# Altium footprint library ADA4945-1ACPZ.PcbLib: 1 footprints
Each footprint in its own frame and in the unit in brackets; x right, y up, seen from the top. Pads: shape width x height; smd on the part's side, far side on the other; paste and mask are expansions set on the pad; w line width, h text height; cw(c..) or ccw(c..) is an arc to the next point about the centre after c.
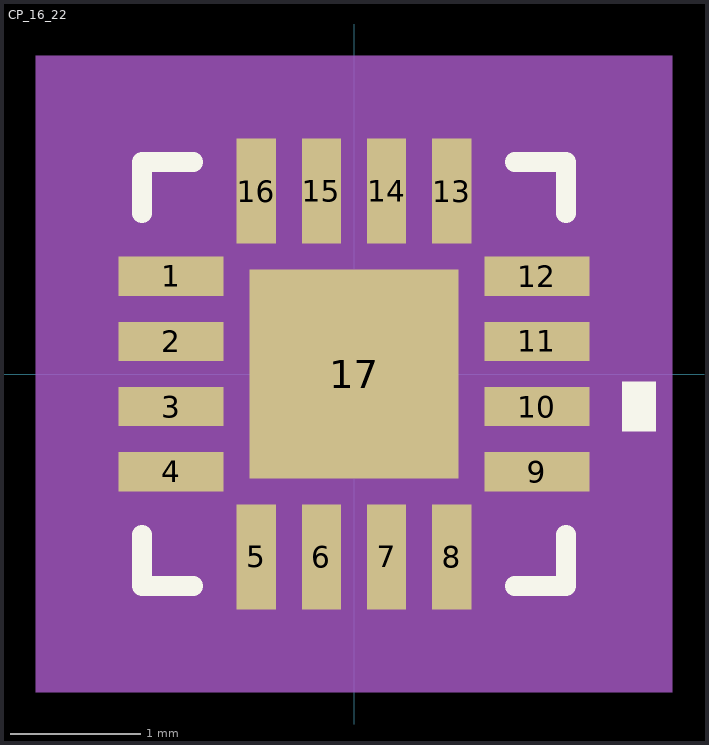
[diagram p0: the footprint, top view; thin cyan lines are the x and y axes]

## CP_16_22 [mm]
pads (17):
  rect 0.805x0.3 smd paste+0 mask+0: 1(-1.402,0.75) 2(-1.402,0.25) 3(-1.402,-0.25) 4(-1.402,-0.75) 9(1.402,-0.75) 10(1.402,-0.25) 11(1.402,0.25) 12(1.402,0.75)
  rect 0.3x0.805 smd paste+0 mask+0: 5(-0.75,-1.402) 6(-0.25,-1.402) 7(0.25,-1.402) 8(0.75,-1.402) 13(0.75,1.402) 14(0.25,1.402) 15(-0.25,1.402) 16(-0.75,1.402)
  rect 1.6x1.6 smd paste-0.787 mask+0: 17(0,0)
Top Overlay:
  region: 2.059,-0.059 2.313,-0.059 2.313,-0.44 2.059,-0.44
  lines w0.152: -1.627,-1.233 -1.627,-1.627 -1.233,-1.627 ; -1.627,1.233 -1.627,1.627 -1.233,1.627 ; 1.233,-1.627 1.627,-1.627 1.627,-1.233 ; 1.233,1.627 1.627,1.627 1.627,1.233
  text "." at -2.921,0.635 h1.27
Top Paste:
  region: 0.8,0.8 -0.8,0.8 -0.8,-0.8 0.8,-0.8
Mechanical 5:
  region: 2.44,-2.44 -2.44,-2.44 -2.44,2.44 2.44,2.44
Mechanical 13:
  lines w0.025: -1.5,0.23 -0.23,1.5 ; -1.5,-1.5 1.5,-1.5 1.5,1.5 -1.5,1.5 -1.5,-1.5 ; -1.5,-0.9 -1.5,-0.6 -1.5,-0.9 ; -1.5,-0.4 -1.5,-0.1 -1.5,-0.4 ; -1.5,0.1 -1.5,0.4 -1.5,0.1 ; -1.5,0.6 -1.5,0.9 -1.5,0.6 ; -0.9,-1.5 -0.6,-1.5 -0.9,-1.5 ; -0.9,1.5 -0.6,1.5 -0.9,1.5 ; -0.4,-1.5 -0.1,-1.5 -0.4,-1.5 ; -0.4,1.5 -0.1,1.5 -0.4,1.5 ; 0.1,-1.5 0.4,-1.5 0.1,-1.5 ; 0.1,1.5 0.4,1.5 0.1,1.5 ; 0.6,-1.5 0.9,-1.5 0.6,-1.5 ; 0.6,1.5 0.9,1.5 0.6,1.5 ; 1.5,-0.9 1.5,-0.6 1.5,-0.9 ; 1.5,-0.4 1.5,-0.1 1.5,-0.4 ; 1.5,0.1 1.5,0.4 1.5,0.1 ; 1.5,0.6 1.5,0.9 1.5,0.6
  text "*" at -1.318,0.365 h1.27
Mechanical 15:
  region: -1,-1.754 -1.754,-1.754 -1.754,-1 -2.004,-1 -2.004,1 -1.754,1 -1.754,1.754 -1,1.754 -1,2.004 1,2.004 1,1.754 1.754,1.754 1.754,1 2.004,1 2.004,-1 1.754,-1 1.754,-1.754 1,-1.754 1,-2.004 -1,-2.004
  lines w0.152: -2.004,-1 -1.754,-1 -1.754,-1.754 -1,-1.754 -1,-2.004 1,-2.004 1,-1.754 1.754,-1.754 1.754,-1 2.004,-1 2.004,1 1.754,1 1.754,1.754 1,1.754 1,2.004 -1,2.004 -1,1.754 -1.754,1.754 -1.754,1 -2.004,1 -2.004,-1
3D body: height 0.25, standoff 0, extent 0,0 0.254,0.254